# Altium integrated library Smart 4S and 5S switchable BMS [BQ769200].IntLib: 28 symbols (part 2 of 2)
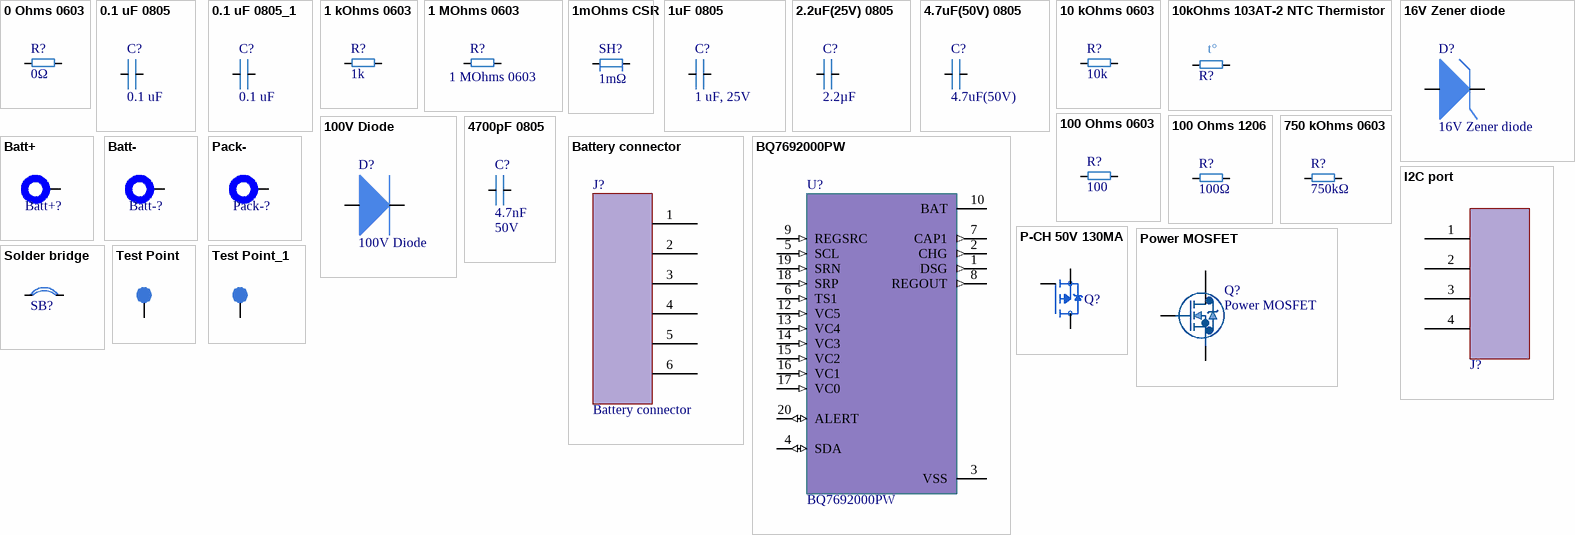
[diagram p1: symbols 0 Ohms 0603 to Test Point_1]

## P-CH 50V 130MA
designator Q?, comment 200mW  (value not drawn)
P-Channel 50 V 10 Ohm Enhancement Mode Transistor SOT-323; Manufacturer: Diodes Inc.; Manufacturer Part Number: BSS84W-7-F; Continuous Drain Current (ID): 130mA; Current Rating: -130mA; Drain to Source Resistance: 10Ω; Drain to Source Voltage (Vdss): -50V; Element Configuration: Single; Gate to Source Voltage (Vgs): 20V; Input Capacitance: 45pF; Min Breakdown Voltage: 50V; Nominal Vgs: -1.6V; Number of Channels: 1; Value: 10Ω; Turn-Off Delay Time: 18ns; Turn-On Delay Time: 10ns; Supplier: Future Electronics; Supplier Part Number: 2191460; RoHS: Compliant; Category: MOSFETs; Stock: 1830000; Pricing: 3000=0.0295, 9000=0.0288, 15000=0.0285, 60000=0.0276, 90000=0.027 (USD); Case/Package: SOT-323; China RoHS: Compliant; Contact Plating: Tin; Height: 1mm; Lead Free: Lead Free; Length: 2.2mm; Lifecycle Status: Production; Max Operating Temperature: 150°C; Max Power Dissipation: 200mW; Min Operating Temperature: -55°C; Mounting Technology: Surface Mount; Number of Elements: 1; Pins: 3; Number of Terminals: 3; Power Dissipation: 200mW; Radiation Hardening: No; Rds On Max: 10Ω; REACH SVHC: Yes; Schedule B: 8541210080, 8541210080|8541210080, 8541210080|8541210080|8541210080, 8541210080|8541210080|8541210080|8541210080; Threshold Voltage: -1.6V; Voltage Rating (DC): -50V; Weight: 6.010099mg; Width: 1.35mm; ComponentLink1URL: https://datasheet.octopart.com:443/BSS84W-7-F-Diodes-Inc.-datasheet-180551845.pdf?src-supplier=Newark; ComponentLink1Description: https://datasheet.octopart.com:443/BSS84W-7-F-Diodes-Inc.-datasheet-180551845.pdf?src-supplier=Newark; ComponentLink2URL: https://datasheet.octopart.com:443/BSS84W-7-F-Diodes-Inc.-datasheet-12525918.pdf?src-supplier=Newark; ComponentLink2Description: https://datasheet.octopart.com:443/BSS84W-7-F-Diodes-Inc.-datasheet-12525918.pdf?src-supplier=Newark; ComponentLink3URL: https://datasheet.octopart.com:443/BSS84W-7-F-Diodes-Inc.-datasheet-8398566.pdf?src-supplier=Newark; ComponentLink3Description: https://datasheet.octopart.com:443/BSS84W-7-F-Diodes-Inc.-datasheet-8398566.pdf?src-supplier=Newark; ComponentLink4URL: https://datasheet.octopart.com:443/BSS84W-7-F-Diodes-Inc.-datasheet-41567332.pdf?src-supplier=Newark; ComponentLink4Description: https://datasheet.octopart.com:443/BSS84W-7-F-Diodes-Inc.-datasheet-41567332.pdf?src-supplier=Newark; ComponentLink5URL: https://datasheet.octopart.com:443/BSS84W-7-F-Diodes-Inc.-datasheet-116035940.pdf?src-supplier=Diodes+Inc+SCT; ComponentLink5Description: https://datasheet.octopart.com:443/BSS84W-7-F-Diodes-Inc.-datasheet-116035940.pdf?src-supplier=Diodes+Inc+SCT; ComponentLink6URL: https://sigma.octopart.com:443/138896157/technical_drawing/Diodes-Inc.-BSS84W-7-F.pdf?src-supplier=Diodes+Inc+SCT; ComponentLink6Description: https://sigma.octopart.com:443/138896157/technical_drawing/Diodes-Inc.-BSS84W-7-F.pdf?src-supplier=Diodes+Inc+SCT; ComponentLink7URL: https://datasheet.octopart.com:443/BSS84W-7-F-Diodes-Inc.-datasheet-128476779.pdf?src-supplier=TME; ComponentLink7Description: https://datasheet.octopart.com:443/BSS84W-7-F-Diodes-Inc.-datasheet-128476779.pdf?src-supplier=TME; ComponentLink8URL: https://datasheet.octopart.com:443/BSS84W-7-F-Diodes-Inc.-datasheet-14061317.pdf?src-supplier=iiiC; ComponentLink8Description: https://datasheet.octopart.com:443/BSS84W-7-F-Diodes-Inc.-datasheet-14061317.pdf?src-supplier=iiiC; ComponentLink9URL: https://datasheet.octopart.com:443/BSS84W-7-F-Diodes-Inc.-datasheet-41929731.pdf?src-supplier=RS+(Formerly+Allied+Electronics); ComponentLink9Description: https://datasheet.octopart.com:443/BSS84W-7-F-Diodes-Inc.-datasheet-41929731.pdf?src-supplier=RS+(Formerly+Allied+Electronics); ComponentLink10URL: https://datasheet.octopart.com:443/BSS84W-7-F-Diodes-Inc.-datasheet-8318221.pdf?src-supplier=Jameco; ComponentLink10Description: https://datasheet.octopart.com:443/BSS84W-7-F-Diodes-Inc.-datasheet-8318221.pdf?src-supplier=Jameco; ComponentLink11URL: https://datasheet.octopart.com:443/BSS84W-7-F-Diodes-Inc.-datasheet-71356.pdf?src-supplier=Mouser; ComponentLink11Description: https://datasheet.octopart.com:443/BSS84W-7-F-Diodes-Inc.-datasheet-71356.pdf?src-supplier=Mouser; ComponentLink12URL: http://sigma.octopart.com:80/15540767/rohs_statement/Diodes-Inc.-BSS84W-7-F.pdf?src-supplier=Compliance+Statements; ComponentLink12Description: http://sigma.octopart.com:80/15540767/rohs_statement/Diodes-Inc.-BSS84W-7-F.pdf?src-supplier=Compliance+Statements
footprint P-CH 50V 130MA
pins: 1 G, 2 S, 3 D

## Pack-
designator Pack-?, comment Power pad  (value not drawn)
Powerplus High Current Terminal; Manufacturer: Wurth Electronics; Manufacturer Part Number: S93515; Supplier: Digikey; Supplier Part Number: 2101-S93515-ND; RoHS: No; Category: Terminals; Stock: 33869; Pricing: 1=1.59, 10=1.352, 25=1.2668, 99=1.14929, 198=1.09439, 297=1.0635, 594=1.01273, 1089=0.97034, 2574=0.9375 (USD)
footprint Screw connector
footprint Power through hole pads
pins: 1 "Power pad"

## Power MOSFET
designator Q?
Mosfet, N-ch, Single, 120A, 65V,; Manufacturer: Good-Ark; Manufacturer Part Number: GSFP06120; Supplier: DigiKey; Supplier Part Number: 4786-GSFP06120CT-ND; Category: MOSFETs; Stock: 2771; Pricing: 1=0.93, 10=0.669, 25=0.6028, 100=0.5305, 250=0.49588, 500=0.47506, 1000=0.45792 (USD)
footprint GSFP06120
pins: 1, 2, 3

## Solder bridge
designator SB?  (value not drawn)
footprint Solder Bridge
pins: 1, 2

## Test Point
designator TP?  (value not drawn)
footprint Test Point
pins: 1

## Test Point_1
designator TP?, comment Pad  (value not drawn)
footprint Test Point
pins: 1